# Altium footprint library SOIC254P695X242-4N.PcbLib: 1 footprints
Each footprint in its own frame and in the unit in brackets; x right, y up, seen from the top. Pads: shape width x height; smd on the part's side, far side on the other; paste and mask are expansions set on the pad; w line width, h text height; cw(c..) or ccw(c..) is an arc to the next point about the centre after c.
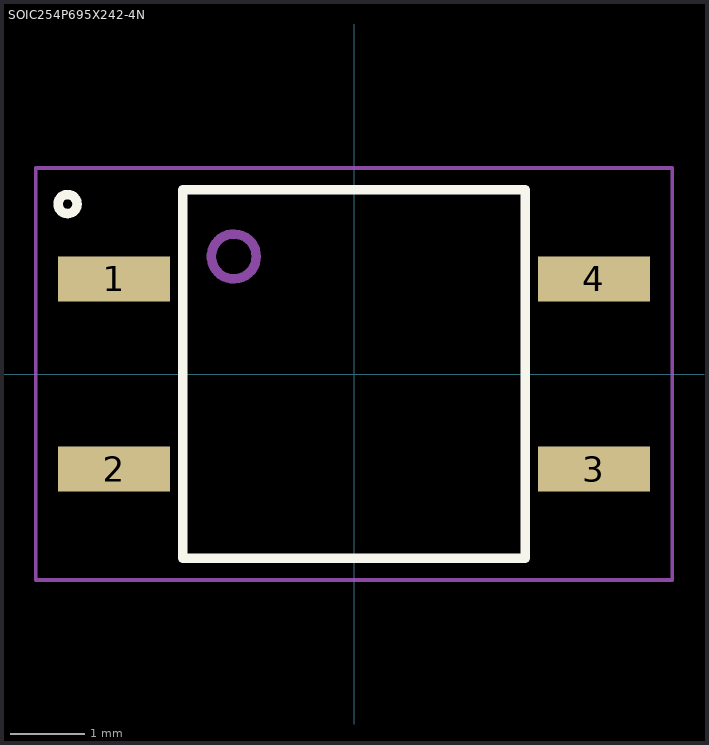
[diagram p0: the footprint, top view; thin cyan lines are the x and y axes]

## SOIC254P695X242-4N [mm]
pads (4):
  rect 1.5x0.6 smd: 1(-3.205,1.27) 2(-3.205,-1.27) 3(3.205,-1.27) 4(3.205,1.27)
Top Overlay:
  circle w0.127: c-3.826,2.27 r0.127
  lines w0.127: -2.285,-2.46 2.285,-2.46 2.285,2.46 -2.285,2.46 -2.285,-2.46
Mechanical 13:
  circle w0.127: c-1.605,1.57 r0.3
Mechanical 15:
  lines w0.05: -4.25,-2.75 4.25,-2.75 4.25,2.75 -4.25,2.75 -4.25,-2.75
3D body "SOP-4V1.x_t": height 2.09, standoff 0, extent -3.5,-1.925 3.5,1.925